# Altium integrated library WP7113YD.IntLib: 1 symbol
Pins are listed as number, name and electrical type; pins without a type are passive.

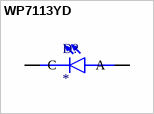
[diagram p0: symbol WP7113YD]

## WP7113YD
designator D?
Yellow 588nm LED Indication - Discrete 2.1V Radial; MF: Kingbright; MP: WP7113YD; SnapEDA_Link: https://www.snapeda.com/parts/WP7113YD/Kingbright/view-part/?ref=snap; Package: Radial Kingbright; Value: *; Check_prices: https://www.snapeda.com/parts/WP7113YD/Kingbright/view-part/?ref=eda
footprint LED_WP7113YD
pins: A, C